# Altium schematic symbol library Toggle_SPDT_3Pin.SchLib: 1 symbol
Pins are listed as number, name and electrical type; pins without a type are passive.

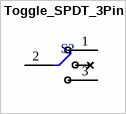
[diagram p0: symbol Toggle_SPDT_3Pin]

## Toggle_SPDT_3Pin
designator S?
Three positions SPDT ON-OFF-ON
pins: 1 OUT1, 2 COM, 3 OUT2